# Altium schematic symbol library IRF520.SchLib: 1 symbol
Pins are listed as number, name and electrical type; pins without a type are passive.

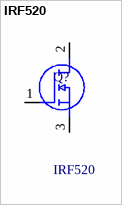
[diagram p0: symbol IRF520]

## IRF520
designator Q?
MOSFET N-Ch 100 Volt 10 Amp; Manufacturer_Name: STMicroelectronics; Geometry.Height: 4.6mm; Mouser Part Number: 511-IRF520; Mouser Price/Stock: https://www.mouser.co.uk/ProductDetail/STMicroelectronics/IRF520?qs=%2FcnINApUglMqLk371v6AuA%3D%3D; Manufacturer_Part_Number: IRF520; Datasheet Link: *
footprint TO270P460X1020X2008-3P
pins: 1 G, 2 D, 3 S